# Altium footprint library ESP8266-12E_ESP-12E.PcbLib: 14 footprints
Each footprint in its own frame and in the unit in brackets; x right, y up, seen from the top. Pads: shape width x height; smd on the part's side, far side on the other; paste and mask are expansions set on the pad; w line width, h text height; cw(c..) or ccw(c..) is an arc to the next point about the centre after c.
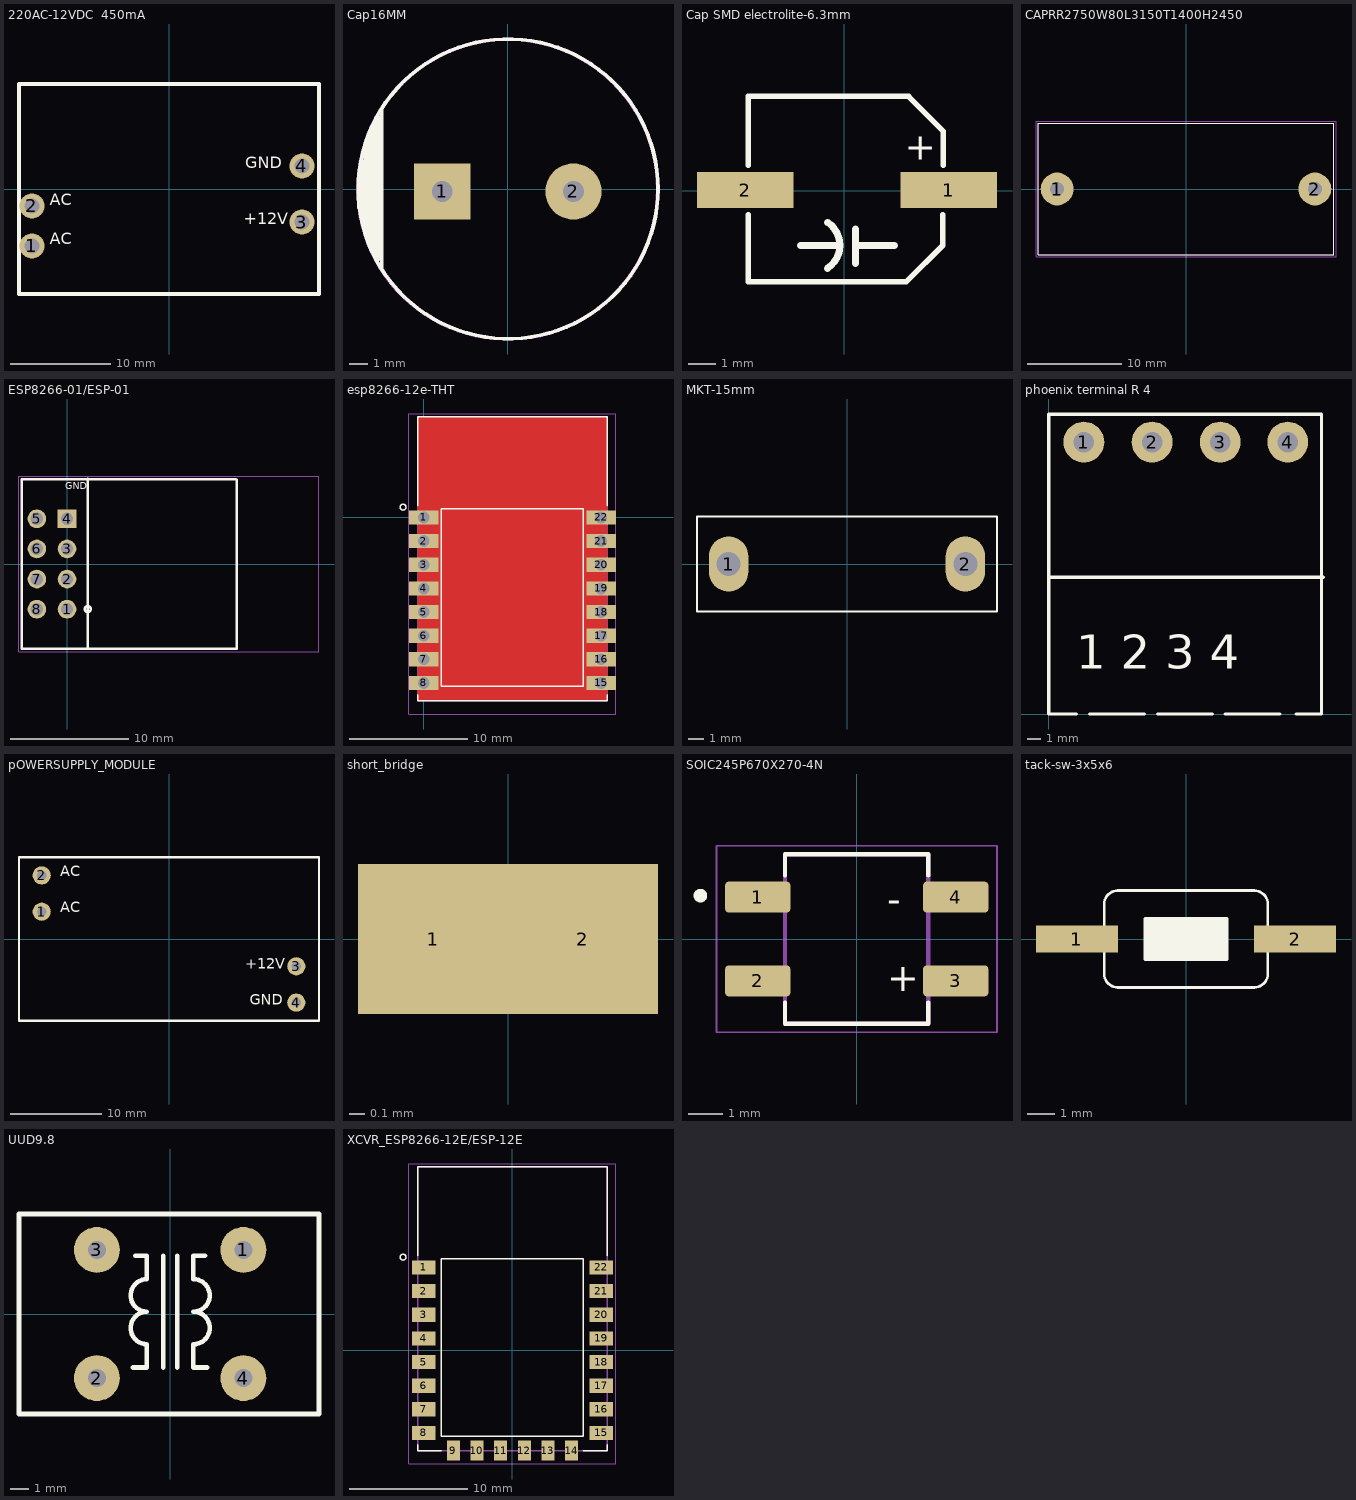
[diagram p0: the footprints below, top view; thin cyan lines are the x and y axes]

## 220AC-12VDC  450mA [mm] "110/220V AC to 12V DC 450mA Power Module"
height 15.5
pads (4):
  round 2.5 hole 1.5: 1(-13.7,-5.7) 2(-13.7,-1.7) 3(13.3,-3.3) 4(13.3,2.3)
Top Overlay:
  lines w0.4: -15,-10.5 15,-10.5 15,10.5 -15,10.5 -15,-10.5
  text "+12V" at 7.493,-3.909 h2
  text "GND" at 7.62,1.679 h2
  text "AC" at -11.936,-2.004 h2
  text "AC" at -11.936,-5.941 h2

## Cap16MM [mm]
pads (2):
  rect 3x3 hole 1.1: 1(-3.5,-0.127)
  round 3 hole 1.1: 2(3.5,-0.127)
Top Overlay:
  circle w0.2: c0.014,0.008 r8
  lines w0.1: -8.001,0.635 -8.001,-1.016 ; -8.001,-1.016 -8.001,-1.016
  lines w0.2: -7.874,-1.143 -7.874,0.889 ; -7.62,1.524 -7.747,1.397 -7.747,-1.905 -7.493,-2.159 ; -7.62,2.159 -7.62,-1.778 -7.493,-1.905 ; -7.493,-2.667 -7.493,-2.159 ; -7.366,2.667 -7.366,-2.794 -6.858,-3.683 ; -7.239,-3.048 -7.239,2.921 ; -7.112,-3.302 -7.112,3.302 ; -6.985,-3.81 -6.858,-3.683 ; -6.985,-3.556 -6.985,3.429 ; -6.858,3.683 -6.858,-3.683 ; -6.858,3.81 -7.493,2.413 -7.493,-2.159 ; -6.731,-4.191 -6.731,4.191 ; -7.493,-2.159 -7.493,-2.159
Top Component Outline:
  circle w0.2: c0.001,0 r8
Bottom Component Outline:
  circle w0.2: c0.001,0 r8
Top Courtyard:
  circle w0.2: c0.001,0 r8
Bottom Courtyard:
  circle w0.2: c0.001,0 r8
3D body: height 15, standoff 0, extent -8,-8 8,8

## Cap SMD electrolite-6.3mm [mm]
pads (2):
  rect 3.5x1.3 smd: 1(3.802,0.025) 2(-3.598,0.025)
Top Overlay:
  lines w0.2: -3.48,-0.875 -3.48,-3.302 2.261,-3.302 3.581,-1.981 3.581,-0.875 ; -3.48,0.925 -3.48,3.429 2.337,3.429 3.607,2.159 3.607,0.925
  lines w0.254: -1.588,-1.986 -0.238,-1.986 ; -0.61,-2.819 ccw(c-1.155,-1.981) -0.605,-1.146 ; 0.406,-2.642 0.41,-1.397 ; 0.492,-1.986 1.832,-1.986
  text "+" at 2.202,1.125 h1
3D body "CAP ALUM 6_6mm.STEP": height 7.7, standoff 0, extent -3.5,-3.224 3.5,3.376

## CAPRR2750W80L3150T1400H2450 [mm]
pads (2):
  round 3.5 hole 1.5: 1(-13.75,0) 2(13.75,0)
Top Overlay:
  lines w0.127: -15.75,-7 15.75,-7 15.75,7 -15.75,7 -15.75,-7
Mechanical 13:
  lines w0.127: -15.75,-7 -15.75,7 15.75,7 15.75,-7 -15.75,-7
Mechanical 15:
  lines w0.05: -16,-7.25 -16,7.25 16,7.25 16,-7.25 -16,-7.25

## ESP8266-01/ESP-01 [mm]
pads (8):
  round 1.575 hole 1.05: 1(0,-3.81) 2(0,-1.27) 3(0,1.27) 5(-2.54,3.81) 6(-2.54,1.27) 7(-2.54,-1.27) 8(-2.54,-3.81)
  rect 1.575x1.575 hole 1.05: 4(0,3.81)
Top Overlay:
  circle w0.2: c1.75,-3.8 r0.25
  lines w0.2: 1.75,-7.125 1.75,7.175 ; 14.25,7.15 -3.81,7.15 -3.81,-7.15 14.3,-7.15 ; 14.3,-7.112 14.3,7.112
  text "GND" at -0.131,6.096 h1
Mechanical 15:
  lines w0.05: -4.05,-7.4 21.25,-7.4 21.25,7.4 -4.05,7.4 -4.05,-7.4
3D body "ESP-01S_RevA.STEP": height 10, standoff -1.9, extent -4.025,-7.15 20.575,7.5

## esp8266-12e-THT [mm]
pads (16):
  rect 2.5x1.2 hole 1: 1(0,0) 2(0,-2) 3(0,-4) 4(0,-6) 5(0,-8) 6(0,-10) 7(0,-12) 8(0,-14) 15(15,-14) 16(15,-12) 17(15,-10) 18(15,-8) 19(15,-6) 20(15,-4) 21(15,-2) 22(15,0)
Top Layer:
  pour cut-out: -0.5,8.5 15.5,8.5 15.5,-15.5 -0.5,-15.5
Bottom Layer:
  pour cut-out: -0.5,8.5 15.5,8.5 15.5,-15.5 -0.5,-15.5
Top Overlay:
  circle w0.127: c-1.75,0.875 r0.25
  lines w0.127: -0.5,-15 -0.5,-15.5 1.5,-15.5 15.5,-15.5 15.5,-15 ; -0.5,1 -0.5,8.5 15.5,8.5 15.5,1 ; 1.5,-14.26 1.5,0.74 13.5,0.74 13.5,-14.26 1.5,-14.26
Mechanical 1:
  lines w0.05: -1.25,-16.625 -1.25,8.75 16.25,8.75 16.25,-16.625 -1.25,-16.625
  lines w0.127: -0.5,-15.5 -0.5,8.5 15.5,8.5 15.5,-15.5 -0.5,-15.5
3D body: height 5, standoff 2, extent -0.5,-15.5 15.5,8.5
3D body: height 2, standoff 0, extent 13.716,-14.605 16.256,0.635
3D body: height 2, standoff 0, extent -1.27,-14.732 1.27,0.635

## MKT-15mm [mm]
pads (2):
  oval 2.5x3.5 hole 1.5: 1(-7.5,0) 2(7.5,0)
Top Overlay:
  lines w0.127: -9.5,-3 -9.5,3 9.5,3 9.5,-3 -9.5,-3

## phoenix terminal R 4 [mm] "4 Right terminals"
pads (4):
  round 3 hole 1.5: 1(2.573,19.939) 2(7.573,19.939) 3(12.573,19.939) 4(17.526,19.939)
Top Overlay:
  lines w0.254: 0,21.971 20,21.971 20,0 ; 0,22 0,0 2,0 ; 0.127,10.033 20.127,10.033 ; 3,0 7,0 ; 8,0 12,0 ; 12.953,0 16.953,0 ; 18.161,0 19.939,0
  text "1 2 3 4" at 2.032,3.302 h2.5

## pOWERSUPPLY_MODULE [mm]
pads (4):
  round 2 hole 1: 1(-14,3) 2(-14,7) 3(14,-3) 4(14,-7)
Top Overlay:
  lines w0.254: -16.5,-9 16.5,-9 16.5,9 -16.5,9 -16.5,-9
  text "+12V" at 8.382,-3.655 h2
  text "GND" at 8.89,-7.592 h2
  text "AC" at -11.936,6.505 h2
  text "AC" at -11.936,2.568 h2

## short_bridge [mm]
pads (2):
  rect 1x1 smd mask+0.102: 1(-0.5,0) 2(0.5,0)
Top Layer:
  rectangle: -0.5,-0.5 0.5,0.5
3D body: height 0, standoff -0.1, extent -1.016,-0.508 1.016,0.508

## SOIC245P670X270-4N [mm]
pads (4):
  rrect23% 1.91x0.91 smd: 1(-2.9,1.225) 2(-2.9,-1.225) 3(2.9,-1.225) 4(2.9,1.225)
Top Overlay:
  circle w0.2: c-4.58,1.27 r0.1
  lines w0.127: -2.1,-1.86 -2.1,-2.48 2.1,-2.48 2.1,-1.86 ; -2.1,1.86 -2.1,2.48 2.1,2.48 2.1,1.86
  text "-" at 0.889,0.762 h0.81
  text "+" at 0.889,-1.524 h0.81
Mechanical 13:
  lines w0.127: -2.1,-2.48 -2.1,2.48 2.1,2.48 2.1,-2.48 -2.1,-2.48
Mechanical 15:
  lines w0.05: -4.11,-2.73 -4.11,2.73 4.11,2.73 4.11,-2.73 -4.11,-2.73

## tack-sw-3x5x6 [mm]
pads (2):
  rect 3x1 smd mask+0.05: 1(-4,0) 2(4,0)
Top Overlay:
  rectangle: -1.5,-0.75 1.5,0.75
  lines w0.1: -3,-1.275 ccw(c-2.5,-1.275) -2.5,-1.775 2.5,-1.775 ccw(c2.5,-1.275) 3,-1.275 3,1.275 ccw(c2.5,1.275) 2.5,1.775 -2.5,1.775 ccw(c-2.5,1.275) -3,1.275 -3,-1.275 ; -1.5,-0.75 -1.5,0.75 1.5,0.75 1.5,-0.75 -1.5,-0.75
3D body "RS-032G05A3-SM RT--3DModel-STEP-56544.STEP": height 4.3, standoff 0, extent -4,-1.75 4,1.75

## UUD9.8 [mm] "Line filter"
pads (4):
  round 2.5 hole 1: 1(4,3.5) 2(-4,-3.5) 3(-4,3.5) 4(4,-3.5)
Top Overlay:
  lines w0.254: -2.032,-2.921 -1.27,-2.921 -1.27,-1.651 cw(c-1.27,-0.762) -1.27,0.127 cw(c-1.27,1.016) -1.27,1.905 -1.27,3.175 -1.905,3.175 ; -0.381,-2.921 -0.381,3.175 ; 0.381,-2.921 0.381,3.175 ; 1.905,3.175 1.27,3.175 1.27,1.905 cw(c1.27,1.016) 1.27,0.127 cw(c1.27,-0.762) 1.27,-1.651 1.27,-2.921 2.032,-2.921 ; -8.255,-5.461 -8.255,5.461 8.128,5.461 8.128,-5.461 -8.255,-5.461
3D body "User Library-UF9_8.STEP": height 15.3, standoff -3, extent -8.076,-5.3 8.081,5.3

## XCVR_ESP8266-12E/ESP-12E [mm]
pads (22):
  rect 2x1.2 smd: 1(-7.5,7) 2(-7.5,5) 3(-7.5,3) 4(-7.5,1) 5(-7.5,-1) 6(-7.5,-3) 7(-7.5,-5) 8(-7.5,-7) 15(7.5,-7) 16(7.5,-5) 17(7.5,-3) 18(7.5,-1) 19(7.5,1) 20(7.5,3) 21(7.5,5) 22(7.5,7)
  rect 1.1x1.7 smd: 9(-5,-8.5) 10(-3,-8.5) 11(-1,-8.5) 12(1,-8.5) 13(3,-8.5) 14(5,-8.5)
Top Overlay:
  circle w0.127: c-9.25,7.875 r0.25
  lines w0.127: -8,-8 -8,-8.5 -6,-8.5 ; -8,8 -8,15.5 8,15.5 8,8 ; 6,-8.5 8,-8.5 8,-8 ; -6,-7.26 6,-7.26 6,7.74 -6,7.74 -6,-7.26
Mechanical 1:
  lines w0.05: -8.75,-9.625 8.75,-9.625 8.75,15.75 -8.75,15.75 -8.75,-9.625
  lines w0.127: -8,-8.5 8,-8.5 8,15.5 -8,15.5 -8,-8.5